# Altium schematic symbol library ir.SCHLIB: 11 symbols
Pins are listed as number, name and electrical type; pins without a type are passive.

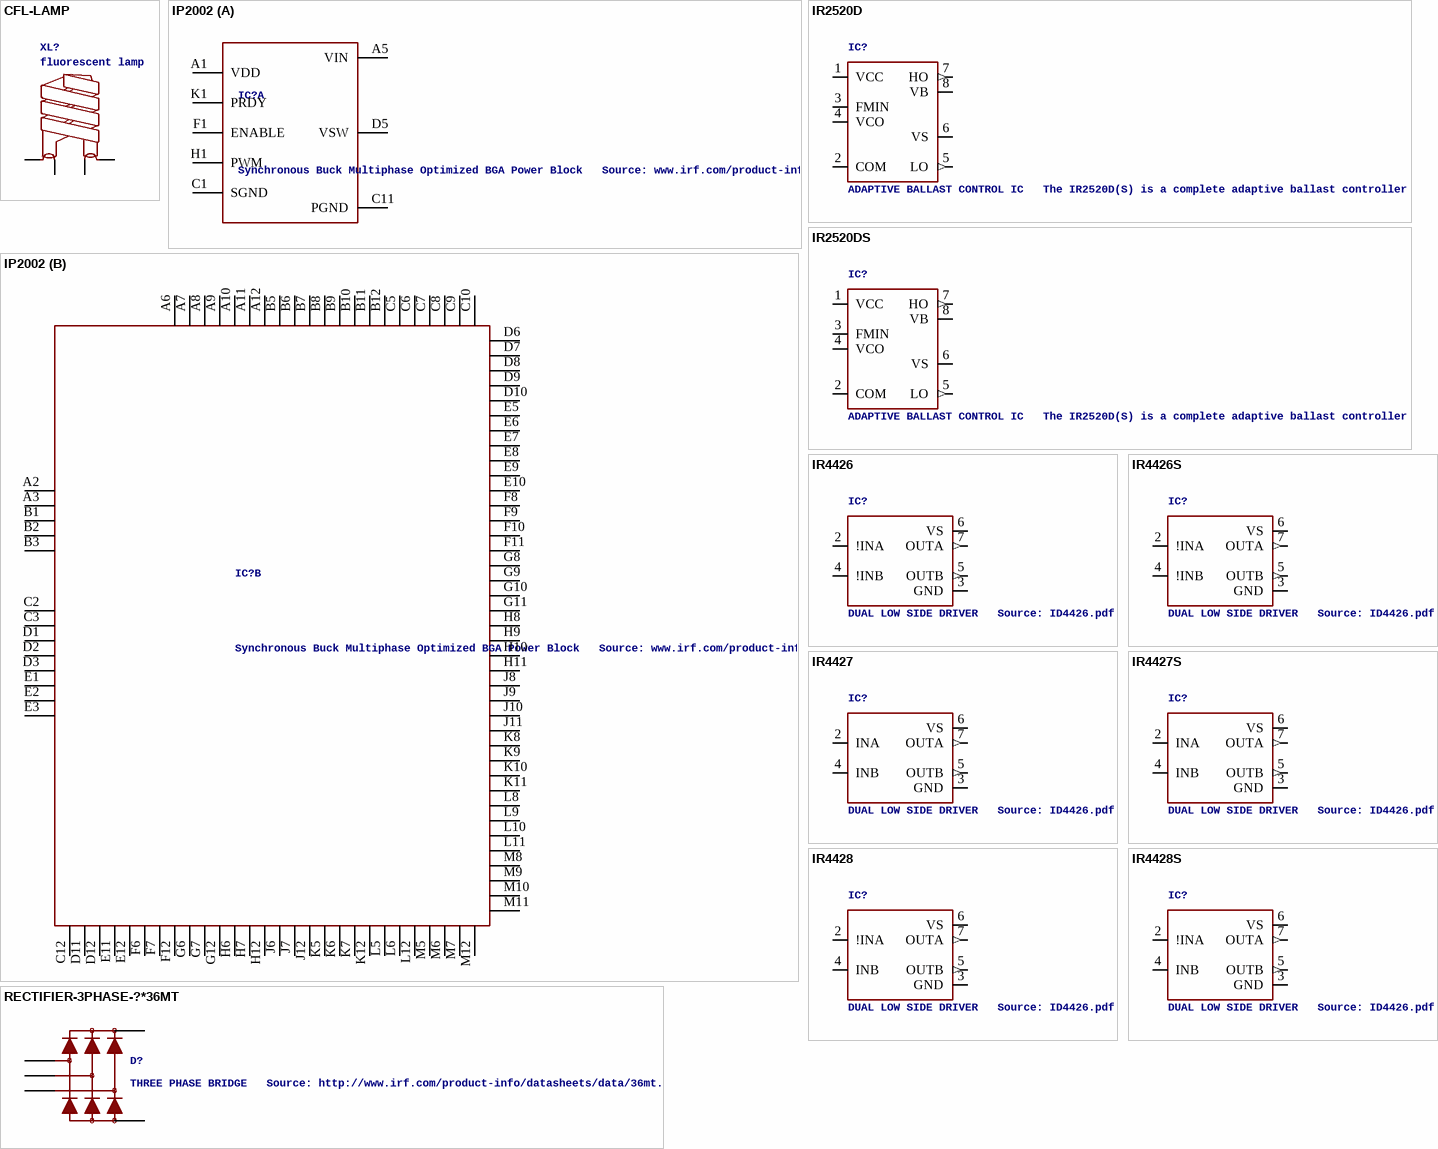
[diagram p0: symbols CFL-LAMP to RECTIFIER-3PHASE-?*36MT]

## CFL-LAMP
designator XL?, comment fluorescent lamp
OC_FARNELL: unknown; OC_NEWARK: unknown
footprint CFL-LAMP
pins: 1, 2, 3, 4

## IP2002
designator IC?, comment Synchronous Buck Multiphase Optimized BGA Power Block   Source: www.irf.com/product-info/datasheets/data/ip2002.pdf
MPN: IP2002PBF; MF: INTERNATIONAL RECTIFIER(IR); OC_FARNELL: unknown; OC_NEWARK: 11M2015
footprint BGA-IP2002
part A pins: A1 VDD (power), A5 VIN (power), C1 SGND (power), C11 PGND (power), D5 VSW (power), F1 ENABLE, H1 PWM, K1 PRDY
part B pins: A2 VDD@1 (power), A3 VDD@2 (power), A6 VIN@1 (power), A7 VIN@2 (power), A8 VIN@3 (power), A9 VIN@4 (power), A10 VIN@5 (power), A11 VIN@6 (power), A12 VIN@7 (power), B1 VDD@3 (power), B2 VDD@4 (power), B3 VDD@5 (power), B5 VIN@8 (power), B6 VIN@9 (power), B7 VIN@10 (power), B8 VIN@11 (power), B9 VIN@12 (power), B10 VIN@13 (power), B11 VIN@14 (power), B12 VIN@15 (power), C2 SGND@1 (power), C3 SGND@2 (power), C5 VIN@16 (power), C6 VIN@17 (power), C7 VIN@18 (power), C8 VIN@19 (power), C9 VIN@20 (power), C10 VIN@21 (power), C12 PGND@1 (power), D1 SGND@3 (power), D2 SGND@4 (power), D3 SGND@5 (power), D6 VSW@1 (power), D7 VSW@2 (power), D8 VSW@3 (power), D9 VSW@4 (power), D10 VSW@5 (power), D11 PGND@2 (power), D12 PGND@3 (power), E1 SGND@6 (power), E2 SGND@7 (power), E3 SGND@8 (power), E5 VSW@6 (power), E6 VSW@7 (power), E7 VSW@8 (power), E8 VSW@9 (power), E9 VSW@10 (power), E10 VSW@11 (power), E11 PGND@4 (power), E12 PGND@5 (power), F6 PGND@6 (power), F7 PGND@7 (power), F8 VSW@12 (power), F9 VSW@13 (power), F10 VSW@14 (power), F11 VSW@15 (power), F12 PGND@8 (power), G6 PGND@9 (power), G7 PGND@10 (power), G8 VSW@16 (power), G9 VSW@17 (power), G10 VSW@18 (power), G11 VSW@19 (power), G12 PGND@11 (power), H6 PGND@12 (power), H7 PGND@13 (power), H8 VSW@20 (power), H9 VSW@21 (power), H10 VSW@22 (power), H11 VSW@23 (power), H12 PGND@14 (power), J6 PGND@15 (power), J7 PGND@16 (power), J8 VSW@24 (power), J9 VSW@25 (power), J10 VSW@26 (power), J11 VSW@27 (power), J12 PGND@17 (power), K5 PGND@18 (power), K6 PGND@19 (power), K7 PGND@20 (power), K8 VSW@28 (power), K9 VSW@29 (power), K10 VSW@30 (power), K11 VSW@31 (power), K12 PGND@21 (power), L5 PGND@22 (power), L6 PGND@23 (power), L8 VSW@32 (power), L9 VSW@33 (power), L10 VSW@34 (power), L11 VSW@35 (power), L12 PGND@24 (power), M5 PGND@25 (power), M6 PGND@26 (power), M7 PGND@27 (power), M8 VSW@36 (power), M9 VSW@37 (power), M10 VSW@38 (power), M11 VSW@39 (power), M12 PGND@28 (power)

## IR2520D
designator IC?, comment ADAPTIVE BALLAST CONTROL IC   The IR2520D(S) is a complete adaptive ballast controller and 600V half-bridge driver integrated into a single IC for fluorescent lighting applications. Data Sheet No. PD60212 Rev A Source: www.irf.com .. ir2520.pdf
MPN: IR2520DPBF; MF: INTERNATIONAL RECTIFIER(IR); OC_FARNELL: 1080633; OC_NEWARK: 63J7916
footprint DIL08
pins: 1 VCC (power), 2 COM (power), 3 FMIN, 4 VCO, 5 LO (out), 6 VS, 7 HO (out), 8 VB

## IR2520DS
designator IC?, comment ADAPTIVE BALLAST CONTROL IC   The IR2520D(S) is a complete adaptive ballast controller and 600V half-bridge driver integrated into a single IC for fluorescent lighting applications. Data Sheet No. PD60212 Rev A Source: www.irf.com .. ir2520.pdf
MPN: IR2520DS; MF: INTERNATIONAL RECTIFIER(IR); OC_FARNELL: 1080634; OC_NEWARK: 63J7917
footprint SO08
pins: 1 VCC (power), 2 COM (power), 3 FMIN, 4 VCO, 5 LO (out), 6 VS, 7 HO (out), 8 VB

## IR4426
designator IC?, comment DUAL LOW SIDE DRIVER   Source: ID4426.pdf
MPN: IR4426PBF; MF: INTERNATIONAL RECTIFIER(IR); OC_FARNELL: 1023265; OC_NEWARK: 19K8460
footprint DIL08
pins: 2 !INA, 3 GND (power), 4 !INB, 5 OUTB (out), 6 VS (power), 7 OUTA (out)

## IR4426S
designator IC?, comment DUAL LOW SIDE DRIVER   Source: ID4426.pdf
MPN: IR4426S; MF: INTERNATIONAL RECTIFIER(IR); OC_FARNELL: 1023266; OC_NEWARK: 27C6913
footprint SO08
pins: 2 !INA, 3 GND (power), 4 !INB, 5 OUTB (out), 6 VS (power), 7 OUTA (out)

## IR4427
designator IC?, comment DUAL LOW SIDE DRIVER   Source: ID4426.pdf
MPN: IR4427; MF: INTERNATIONAL RECTIFIER(IR); OC_FARNELL: 1023267; OC_NEWARK: 27C6914
footprint DIL08
pins: 2 INA, 3 GND (power), 4 INB, 5 OUTB (out), 6 VS (power), 7 OUTA (out)

## IR4427S
designator IC?, comment DUAL LOW SIDE DRIVER   Source: ID4426.pdf
MPN: IR4427STRPBF; MF: INTERNATIONAL RECTIFIER(IR); OC_FARNELL: 8639094; OC_NEWARK: 63J7933
footprint SO08
pins: 2 INA, 3 GND (power), 4 INB, 5 OUTB (out), 6 VS (power), 7 OUTA (out)

## IR4428
designator IC?, comment DUAL LOW SIDE DRIVER   Source: ID4426.pdf
MPN: IR4428PBF; MF: INTERNATIONAL RECTIFIER(IR); OC_FARNELL: 1023268; OC_NEWARK: 19K8464
footprint DIL08
pins: 2 !INA, 3 GND (power), 4 INB, 5 OUTB (out), 6 VS (power), 7 OUTA (out)

## IR4428S
designator IC?, comment DUAL LOW SIDE DRIVER   Source: ID4426.pdf
MPN: IR4428STR; MF: INTERNATIONAL RECTIFIER(IR); OC_FARNELL: 1023269; OC_NEWARK: 30C0206
footprint SO08
pins: 2 !INA, 3 GND (power), 4 INB, 5 OUTB (out), 6 VS (power), 7 OUTA (out)

## RECTIFIER-3PHASE-?*36MT
designator D?, comment THREE PHASE BRIDGE   Source: http://www.irf.com/product-info/datasheets/data/36mt.pdf
MPN: VS-36MT10; MPN: VS-36MT100; MPN: 36MT120; MPN: 36MT140; MPN: VS-36MT160; MPN: 36MT20; MPN: 36MT40PBF; MPN: 36MT60; MPN: VS-36MT80; MF: INTERNATIONAL RECTIFIER(IR); OC_FARNELL: unknown; OC_NEWARK: 09F6869; OC_FARNELL: 2422293; OC_NEWARK: 09F6870; OC_FARNELL: 9098917; OC_NEWARK: 09F6871; OC_FARNELL: 9098895; OC_NEWARK: 48F1237; OC_FARNELL: 9098879; OC_NEWARK: 48F1238; OC_FARNELL: 2422311; OC_NEWARK: 09F6872; OC_FARNELL: 9098860; OC_NEWARK: 98K8885; OC_NEWARK: unknown; OC_FARNELL: 2422335; OC_NEWARK: 09F6874; OC_FARNELL: 9098887; OC_NEWARK: 09F6875
footprint 36MT
pins: +@1, +@2, -@1, -@2, ~1@1, ~1@2, ~2@1, ~2@2, ~3@1, ~3@2